# EAGLE library part AVR_SPI_PROG_2X5 (library angrypig7-Connectors-Programming)
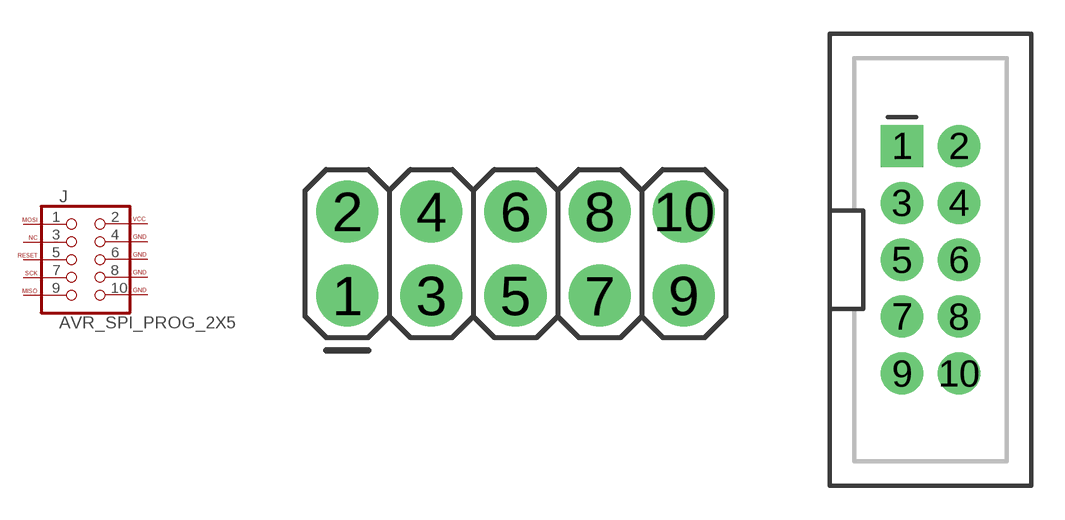
[diagram p0: symbol with the pads of 2X5-2.54MM; footprints 2X5-2.54MM, 2X5-2.54MM-SHROUDED]

Designator prefix J

## AVR_SPI_PROG_2X5_PTH  [2X5-2.54MM]
1  MOSI  pas
2  VCC  pwr
3  NC  nc
4  GND  pwr
5  RESET  pas
6  GND  pwr
7  SCK  pas
8  GND  pwr
9  MISO  pas
10  GND  pwr

## AVR_SPI_PROG_2X5_SHROUDED (PROD_ID: CONN-08671; SF_ID: PRT-08506)  [2X5-2.54MM-SHROUDED]
Pads as for 2X5-2.54MM

## AVR_SPI_PROG_2X5_SMD  [2X5-2.54MM-SHROUDED_SMD]
Pads as for 2X5-2.54MM

## Footprint 2X5-2.54MM (pad centres in mm)
drill 1.016 pad 1.88: 1 0,0; 2 0,2.54; 3 2.54,0; 4 2.54,2.54; 5 5.08,0; 6 5.08,2.54; 7 7.62,0; 8 7.62,2.54; 9 10.16,0; 10 10.16,2.54

## Footprint 2X5-2.54MM-SHROUDED (pad centres in mm)
drill 1.016 pad 1.88 square: 1 -1.27,5.08
drill 1.016 pad 1.88: 2 1.27,5.08; 3 -1.27,2.54; 4 1.27,2.54; 5 -1.27,0; 6 1.27,0; 7 -1.27,-2.54; 8 1.27,-2.54; 9 -1.27,-5.08; 10 1.27,-5.08

## Footprint 2X5-2.54MM-SHROUDED_SMD (pad centres in mm)
smd 4.15 x 1: 1 -2.794,5.08; 2 2.794,5.08; 3 -2.794,2.54; 4 2.794,2.54; 5 -2.794,0; 6 2.794,0; 7 -2.794,-2.54; 8 2.794,-2.54; 9 -2.794,-5.08; 10 2.794,-5.08